# Altium schematic symbol library LAN9730.SchLib: 1 symbol
Pins are listed as number, name and electrical type; pins without a type are passive.

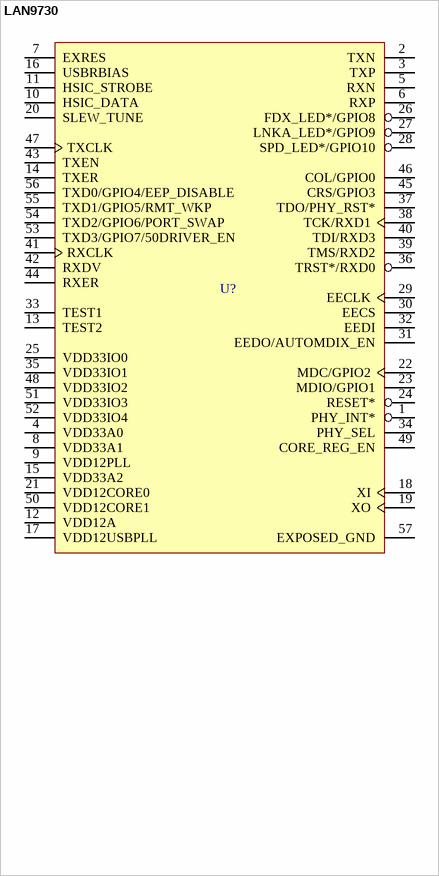
[diagram p0: symbol LAN9730]

## LAN9730
designator U?
High-Speed Inter-Chip (HSIC) USB 2.0 to 10/100 Ethernet / Controller
pins: 1 PHY_INT*, 2 TXN, 3 TXP, 4 VDD33A0, 5 RXN, 6 RXP, 7 EXRES, 8 VDD33A1, 9 VDD12PLL, 10 HSIC_DATA, 11 HSIC_STROBE, 12 VDD12A, 13 TEST2, 14 TXER, 15 VDD33A2, 16 USBRBIAS, 17 VDD12USBPLL, 18 XI, 19 XO, 20 SLEW_TUNE, 21 VDD12CORE0, 22 MDC/GPIO2, 23 MDIO/GPIO1, 24 RESET*, 25 VDD33IO0, 26 FDX_LED*/GPIO8, 27 LNKA_LED*/GPIO9, 28 SPD_LED*/GPIO10, 29 EECLK, 30 EECS, 31 EEDO/AUTOMDIX_EN, 32 EEDI, 33 TEST1, 34 PHY_SEL, 35 VDD33IO1, 36 TRST*/RXD0, 37 TDO/PHY_RST*, 38 TCK/RXD1, 39 TMS/RXD2, 40 TDI/RXD3, 41 RXCLK, 42 RXDV, 43 TXEN, 44 RXER, 45 CRS/GPIO3, 46 COL/GPIO0, 47 TXCLK, 48 VDD33IO2, 49 CORE_REG_EN, 50 VDD12CORE1, 51 VDD33IO3, 52 VDD33IO4, 53 TXD3/GPIO7/50DRIVER_EN, 54 TXD2/GPIO6/PORT_SWAP, 55 TXD1/GPIO5/RMT_WKP, 56 TXD0/GPIO4/EEP_DISABLE, 57 EXPOSED_GND